# Altium footprint library button_loại 1.PcbLib: 1 footprints
Each footprint in its own frame and in the unit in brackets; x right, y up, seen from the top. Pads: shape width x height; smd on the part's side, far side on the other; paste and mask are expansions set on the pad; w line width, h text height; cw(c..) or ccw(c..) is an arc to the next point about the centre after c.
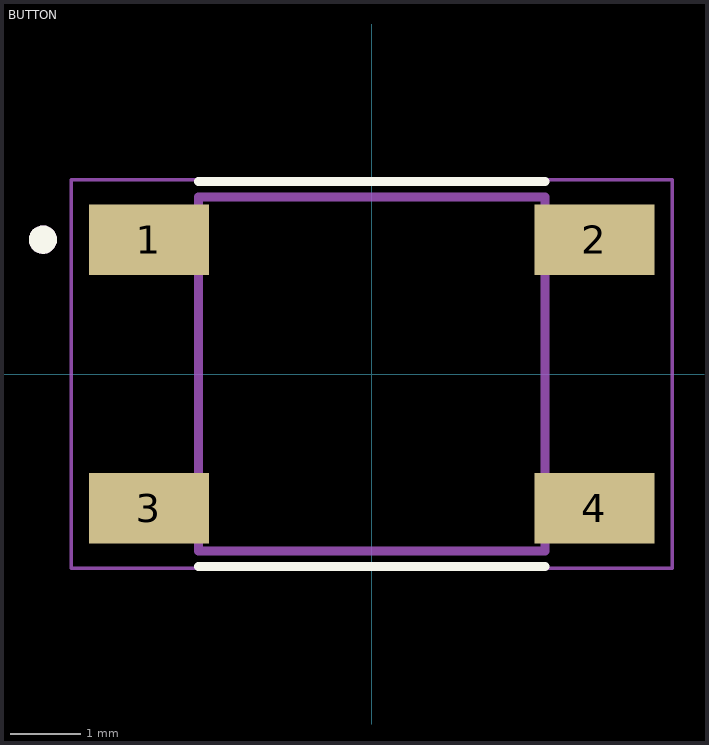
[diagram p0: the footprint, top view; thin cyan lines are the x and y axes]

## BUTTON [mm] "Loai 1"
pads (4):
  rect 1.7x1 smd: 1(-3.15,1.9) 2(3.15,1.9) 3(-3.15,-1.9) 4(3.15,-1.9)
Top Overlay:
  circle w0.2: c-4.65,1.9 r0.1
  lines w0.127: -2.45,-2.72 2.45,-2.72 ; -2.45,2.72 2.45,2.72
Mechanical 13:
  circle w0.2: c-4.65,1.9 r0.1
  lines w0.127: -2.45,-2.5 2.45,-2.5 2.45,2.5 -2.45,2.5 -2.45,-2.5
Mechanical 15:
  lines w0.05: -4.25,-2.75 4.25,-2.75 4.25,2.75 -4.25,2.75 -4.25,-2.75
3D body "Tactile_SMD_5x5mm.STEP": height 1.52, standoff 0, extent -3.25,-2.54 3.25,2.54